# Altium footprint library ElectroMechanical-Relay.PcbLib: 2 footprints
Each footprint in its own frame and in the unit in brackets; x right, y up, seen from the top. Pads: shape width x height; smd on the part's side, far side on the other; paste and mask are expansions set on the pad; w line width, h text height; cw(c..) or ccw(c..) is an arc to the next point about the centre after c.
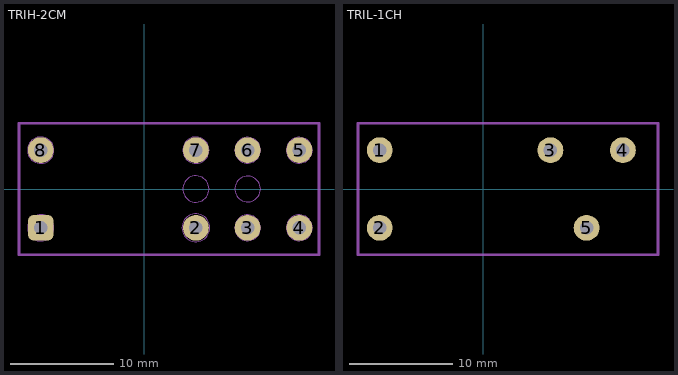
[diagram p0: the footprints below, top view; thin cyan lines are the x and y axes]

## TRIH-2CM [mm]
pads (8):
  rrect50% 2.5x2.5 hole 1.3: 1(-10,-3.75)
  round 2.5 hole 1.3: 2(5,-3.75) 3(10,-3.75) 4(15,-3.75) 5(15,3.75) 6(10,3.75) 7(5,3.75) 8(-10,3.75)
Mechanical 4:
  text ".Designator" at -7.5,0 h2
Mechanical 13:
  circle w0.1: c5,0 r1.275
  circle w0.1: c10,0 r1.25
  lines w0.254: -12.1,-6.35 -12.1,6.35 16.9,6.35 16.9,-6.35 -12.1,-6.35
Mechanical 14:
  circle w0.1: c5,3.75 r1.275
  circle w0.1: c10,3.75 r1.25
  circle w0.1: c15,3.75 r1.25
  circle w0.1: c15,-3.75 r1.25
  circle w0.1: c10,-3.75 r1.25
  circle w0.1: c5,-3.75 r1.346
  circle w0.1: c-10,-3.75 r1.275
  circle w0.1: c-10,3.75 r1.275
3D body: height 25.5, standoff 0, extent -12.1,-6.35 16.9,6.35
3D body: height 25.6, standoff 25.5, extent -11.5,3 -9,5
3D body: height 25.6, standoff 25.5, extent -9.5,2 -7,4
3D body: height 25.6, standoff 25.5, extent -6.5,3 -6,4
3D body: height 25.6, standoff 25.5, extent -6.5,4.5 -6,5

## TRIL-1CH [mm]
pads (5):
  round 2.5 hole 1.3: 1(-10,3.75) 2(-10,-3.75) 3(6.5,3.75) 4(13.5,3.75) 5(10,-3.75)
Mechanical 13:
  lines w0.254: -12.1,-6.35 -12.1,6.35 16.9,6.35 16.9,-6.35 -12.1,-6.35
3D body: height 15.7, standoff 0, extent -12.1,-6.35 16.9,6.35
3D body: height 15.8, standoff 15.7, extent -11.5,3 -9,5
3D body: height 15.8, standoff 15.7, extent -9.5,2 -7,4
3D body: height 15.8, standoff 15.7, extent -6.5,3 -6,4
3D body: height 15.8, standoff 15.7, extent -6.5,4.5 -6,5